# Altium schematic symbol library WR-THR.SchLib: 1 symbol
Pins are listed as number, name and electrical type; pins without a type are passive.

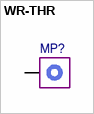
[diagram p0: symbol WR-THR]

## WR-THR
designator MP?
pins: 1